# Altium footprint library djahng.PcbLib: 58 footprints (part 2 of 4)
Each footprint in its own frame and in the unit in brackets; x right, y up, seen from the top. Pads: shape width x height; smd on the part's side, far side on the other; paste and mask are expansions set on the pad; w line width, h text height; cw(c..) or ccw(c..) is an arc to the next point about the centre after c.
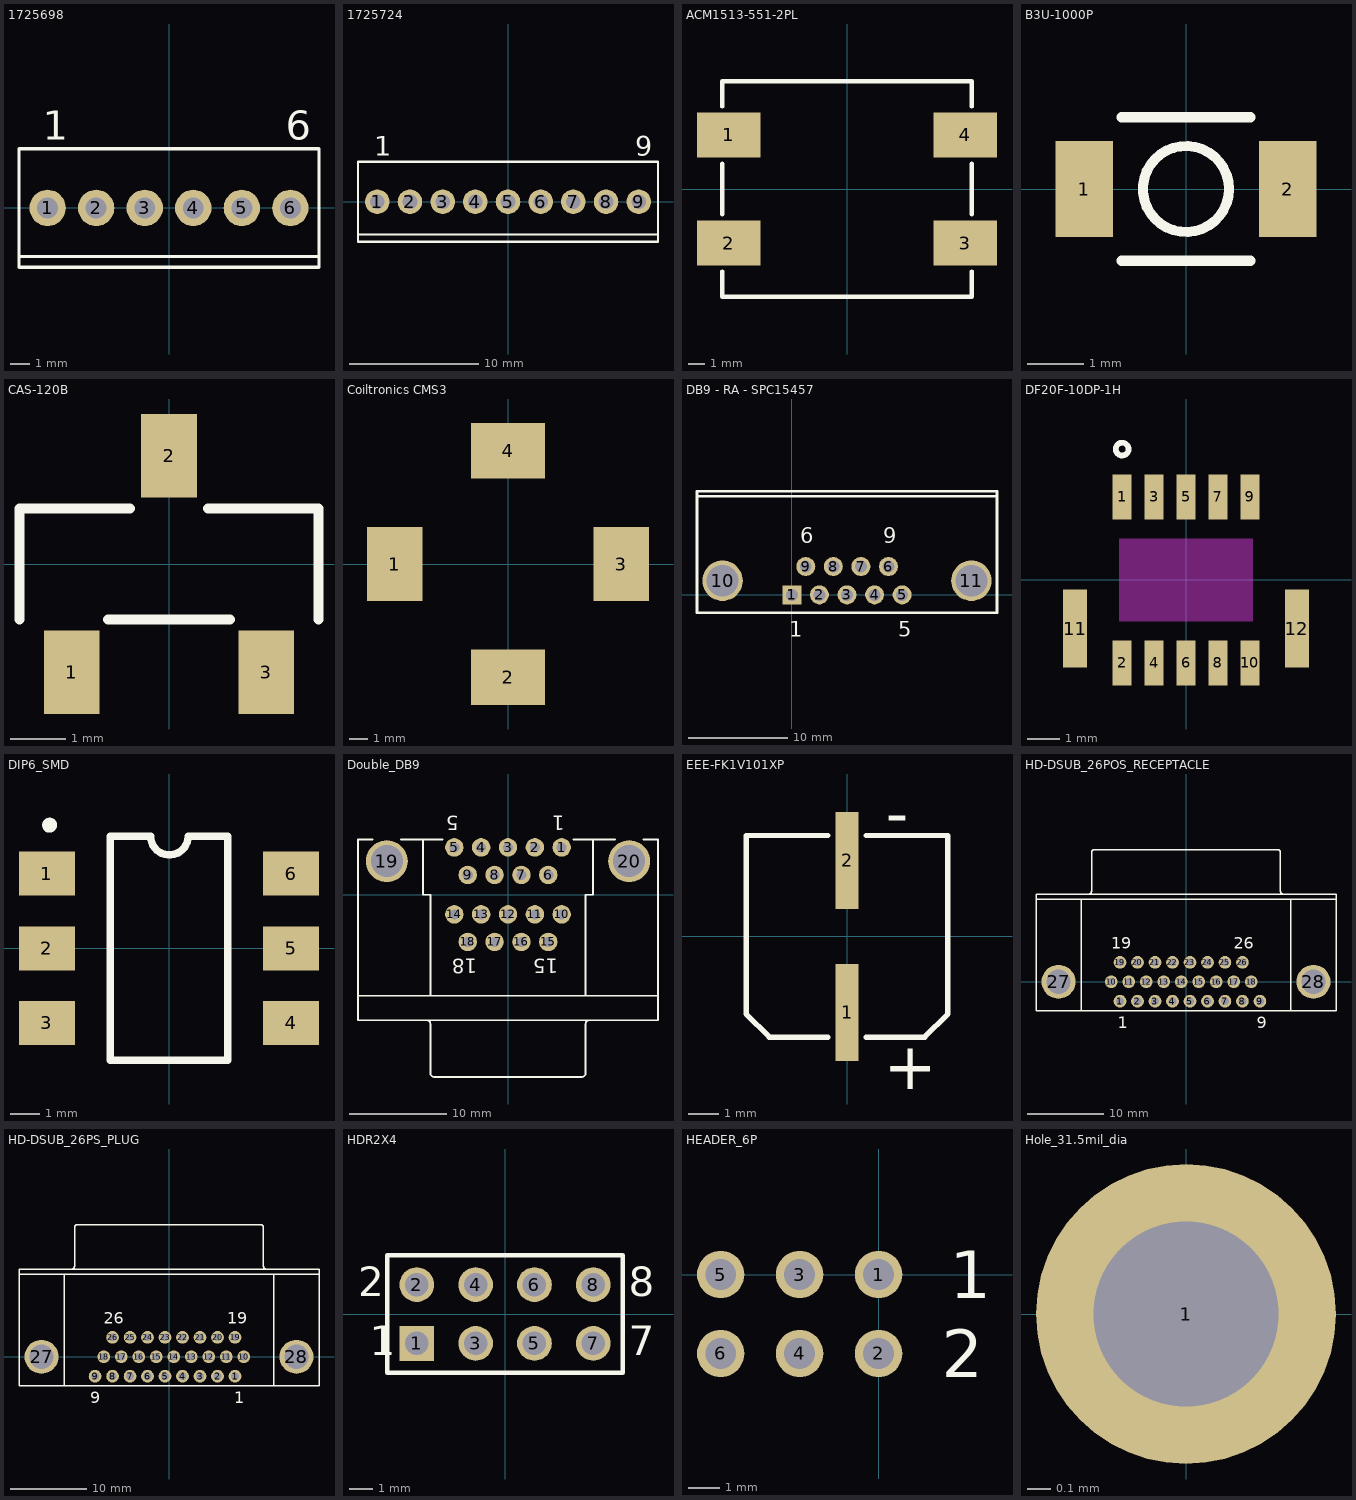
[diagram p1: the footprints below, top view; thin cyan lines are the x and y axes]

## 1725698 [mil] "Phoenix Contact 1725698, 6 pos terminal block, 2.54mm (0.100\") pitch"
height 335
pads (6):
  round 75 hole 43: 1(-250,0) 2(-150,0) 3(-50,0) 4(50,0) 5(150,0) 6(250,0)
Top Overlay:
  lines w7: -309,-100 309,-100 ; -309,-122 -309,122 309,122 309,-122 -309,-122
  text "6" at 240,140 h60
  text "1" at -260,140 h60

## 1725724 [mil] "Phoenix Contact 1725724, 9 pos terminal block, 2.54mm (0.100\") pitch"
height 335
pads (9):
  round 75 hole 45: 1(-400,0) 2(-300,0) 3(-200,0) 4(-100,0) 5(0,0) 6(100,0) 7(200,0) 8(300,0) 9(400,0)
Top Overlay:
  lines w7: -459,-100 459,-100 ; -459,-122 459,-122 459,122 -459,122 -459,-122
  text "1" at -410,140 h60
  text "9" at 390,140 h60

## ACM1513-551-2PL [mil] "TDK Power Line Common Mode Filter, 10A"
height 236
pads (4):
  rect 150x106 smd: 1(-280,128) 2(-280,-128) 3(280,-128) 4(280,128)
Top Overlay:
  lines w10: -295,-195 -295,-255 295,-255 295,-195 ; -295,-60 -295,60 ; -295,195 -295,255 295,255 295,195 ; 295,-60 295,60

## B3U-1000P [mil] "Pushbutton without ground terminal, without boss"
height 63
pads (2):
  rect 40x67 smd: 1(-71,0) 2(71,0)
Top Overlay:
  circle w7: c0,0 r30
  lines w7: -45,-50 45,-50 ; -45,50 45,50

## CAS-120B [mm] "Copal Electronics CAS SMD Slide Switch"
height 2.54
pads (3):
  rect 1x1.5 smd: 1(-1.75,-1.95) 2(0,1.95) 3(1.75,-1.95)
Top Overlay:
  lines w0.178: -2.692,-1 -2.692,1 -0.7,1 ; -1.1,-1 1.1,-1 ; 0.7,1 2.692,1 2.692,-1

## Coiltronics CMS3 [mil] "Coiltronics common mode choke inductor"
height 236
pads (4):
  rect 120x160 smd: 1(-246,0) 3(246,0)
  rect 160x120 smd: 2(0,-246) 4(0,246)

## DB9 - RA - SPC15457 [mil]
pads (11):
  rect 75x75 hole 47: 1(0,0)
  round 75 hole 47: 2(109,0) 3(218,0) 4(327,0) 5(436,0) 6(382,112) 7(273,112) 8(164,112) 9(55,112)
  round 160 hole 126: 10(-274,56) 11(710,56)
Top Overlay:
  lines w10: -375,389 811,389 ; -375,-70 801,-70 811,-70 811,409 801,409 -375,409 -375,-70
  text "1" at -10,-165 h60
  text "5" at 420,-165 h60
  text "9" at 362,205 h60
  text "6" at 33,205 h60

## DF20F-10DP-1H [mm] "Hirose Double Row Right Angle Pin Header - Surface Mount, 10 Pins"
height 5.5
pads (12):
  rect 0.6x1.4 smd: 1(-2,2.6) 2(-2,-2.6) 3(-1,2.6) 4(-1,-2.6) 5(0,2.6) 6(0,-2.6) 7(1,2.6) 8(1,-2.6) 9(2,2.6) 10(2,-2.6)
  rect 0.75x2.45 smd: 11(-3.475,-1.525) 12(3.475,-1.525)
Top Overlay:
  circle w0.178: c-2,4.1 r0.2
Keep-Out Layer:
  region: 2.1,1.3 -2.1,1.3 -2.1,-1.3 2.1,-1.3

## DIP6_SMD [mil]
pads (6):
  rect 75x59 smd: 1(-163.5,100) 2(-163.5,0) 3(-163.5,-100) 4(163.5,-100) 5(163.5,0) 6(163.5,100)
Top Overlay:
  circle w10: c-160,165 r5
  lines w10: -78.5,-150 78.5,-150 78.5,150 25.5,150 cw(c0.5,150) -24.5,150 -78.5,150 -78.5,-150

## Double_DB9 [mil] "Tyco Electronics HD-20 D-Sub double stacked PCB connector"
height 1244
pads (20):
  round 75 hole 41: 1(218,192) 2(109,192) 3(0,192) 4(-109,192) 5(-218,192) 6(163.5,80) 7(54.5,80) 8(-54.5,80) 9(-163.5,80) 10(218,-80) 11(109,-80) 12(0,-80) 13(-109,-80) 14(-218,-80) 15(163.5,-192) 16(54.5,-192) 17(-54.5,-192) 18(-163.5,-192)
  round 170 hole 130: 19(-492,136) 20(492,136)
Top Overlay:
  lines w7: -609,-410 609,-410 ; -549,224 -609,224 -609,-510 609,-510 609,224 549,224 ; -435,224 -265,224 ; -345,224 -345,0 -315,0 -315,-410 ; -315,-725 -315,-525 ; -300,-740 300,-740 ; 265,224 435,224 ; 315,-725 315,-525 ; 315,-410 315,0 345,0 345,224
  lines w7.01: -330,-510 cw(c-330,-525) -315,-525 ; -315,-725 ccw(c-300,-725) -300,-740 ; 300,-740 ccw(c300,-725) 315,-725 ; 315,-525 cw(c330,-525) 330,-510
  text "18" at -125,-260 h60
  text "15" at 205,-260 h60
  text "5" at -200,320 h60
  text "1" at 230,320 h60

## EEE-FK1V101XP [mil] "SMD Electrolytic Capacitor"
height 303
pads (2):
  rect 30x125 smd: 1(0,-98) 2(0,98)
Top Overlay:
  lines w7: -25,-130 -100,-130 -130,-100 -130,130 -25,130 ; 25,-130 100,-130 130,-100 130,130 25,130
  text "-" at 50,130 h60
  text "+" at 47.24,-196.85 h60

## HD-DSUB_26POS_RECEPTACLE [mil] "AMP 5748481-6"
height 492
pads (28):
  round 65 hole 40: 1(-339.5,-100) 2(-249.5,-100) 3(-159.5,-100) 4(-69.5,-100) 5(20.5,-100) 6(110.5,-100) 7(200.5,-100) 8(290.5,-100) 9(380.5,-100) 10(-384.5,0) 11(-294.5,0) 12(-204.5,0) 13(-114.5,0) 14(-24.5,0) 15(65.5,0) 16(155.5,0) 17(245.5,0) 18(335.5,0) 19(-339.5,100) 20(-249.5,100) 21(-159.5,100) 22(-69.5,100) 23(20.5,100) 24(110.5,100) 25(200.5,100) 26(290.5,100)
  round 175 hole 125: 27(-655.5,0) 28(655.5,0)
Top Overlay:
  lines w7: -771.5,425 771.5,425 ; -539.5,-150 -539.5,425 ; -486,465 -486,665 ; -471,680 471,680 ; 486,465 486,665 ; 539.5,-150 539.5,425 ; -771.5,-150 -771.5,450 771.5,450 771.5,-150 -771.5,-150
  lines w7.01: -501,450 ccw(c-501,465) -486,465 ; -486,665 cw(c-471,665) -471,680 ; 471,680 cw(c471,665) 486,665 ; 486,465 ccw(c501,465) 501,450
  text "19" at -385,170 h60
  text "26" at 245,170 h60
  text "1" at -350,-240 h60
  text "9" at 365,-240 h60

## HD-DSUB_26PS_PLUG [mil] "AMP 5749769-1"
height 492
pads (28):
  round 65 hole 40: 1(339.5,-100) 2(249.5,-100) 3(159.5,-100) 4(69.5,-100) 5(-20.5,-100) 6(-110.5,-100) 7(-200.5,-100) 8(-290.5,-100) 9(-380.5,-100) 10(384.5,0) 11(294.5,0) 12(204.5,0) 13(114.5,0) 14(24.5,0) 15(-65.5,0) 16(-155.5,0) 17(-245.5,0) 18(-335.5,0) 19(339.5,100) 20(249.5,100) 21(159.5,100) 22(69.5,100) 23(-20.5,100) 24(-110.5,100) 25(-200.5,100) 26(-290.5,100)
  round 175 hole 125: 27(-655.5,0) 28(655.5,0)
Top Overlay:
  lines w7: -771.5,425 771.5,425 ; -539.5,-150 -539.5,425 ; -486,465 -486,665 ; -471,680 471,680 ; 486,465 486,665 ; 539.5,-150 539.5,425 ; -771.5,-150 771.5,-150 771.5,450 -771.5,450 -771.5,-150
  lines w7.01: -501,450 ccw(c-501,465) -486,465 ; -486,665 cw(c-471,665) -471,680 ; 471,680 cw(c471,665) 486,665 ; 486,465 ccw(c501,465) 501,450
  text "19" at 300,170 h60
  text "1" at 335,-240 h60
  text "9" at -405,-240 h60
  text "26" at -335,170 h60

## HDR2X4 [mm] "Connector; Header; 4x2 Position"
pads (8):
  rect 1.5x1.5 hole 1.016: 1(-3.81,-1.27)
  round 1.5 hole 1.016: 2(-3.81,1.27) 3(-1.27,-1.27) 4(-1.27,1.27) 5(1.27,-1.27) 6(1.27,1.27) 7(3.81,-1.27) 8(3.81,1.27)
Top Overlay:
  lines w0.2: -5.08,-2.54 5.08,-2.54 5.08,2.54 -5.08,2.54 -5.08,-2.54
  text "2" at -6.35,0.762 h1.27
  text "1" at -5.842,-1.778 h1.27
  text "7" at 5.334,-1.778 h1.27
  text "8" at 5.334,0.762 h1.27

## HEADER_6P [mil] "0.1\" Spacing, 39mil Hole Diameter"
pads (6):
  round 60 hole 39: 1(0,0) 2(0,-100) 3(-100,0) 4(-100,-100) 5(-200,0) 6(-200,-100)
Top Overlay:
  text "2" at 80,-130 h60
  text "1" at 90,-30 h60

## Hole_31.5mil_dia [mm] "31.496 mil diameter hole, 51.181 mil pad"
pads (1):
  round 1.3 hole 0.8: 1(0,0)